# Altium footprint library Lib_PCB_IFOG_Interrogator.PcbLib: 31 footprints (part 2 of 2)
Each footprint in its own frame and in the unit in brackets; x right, y up, seen from the top. Pads: shape width x height; smd on the part's side, far side on the other; paste and mask are expansions set on the pad; w line width, h text height; cw(c..) or ccw(c..) is an arc to the next point about the centre after c.
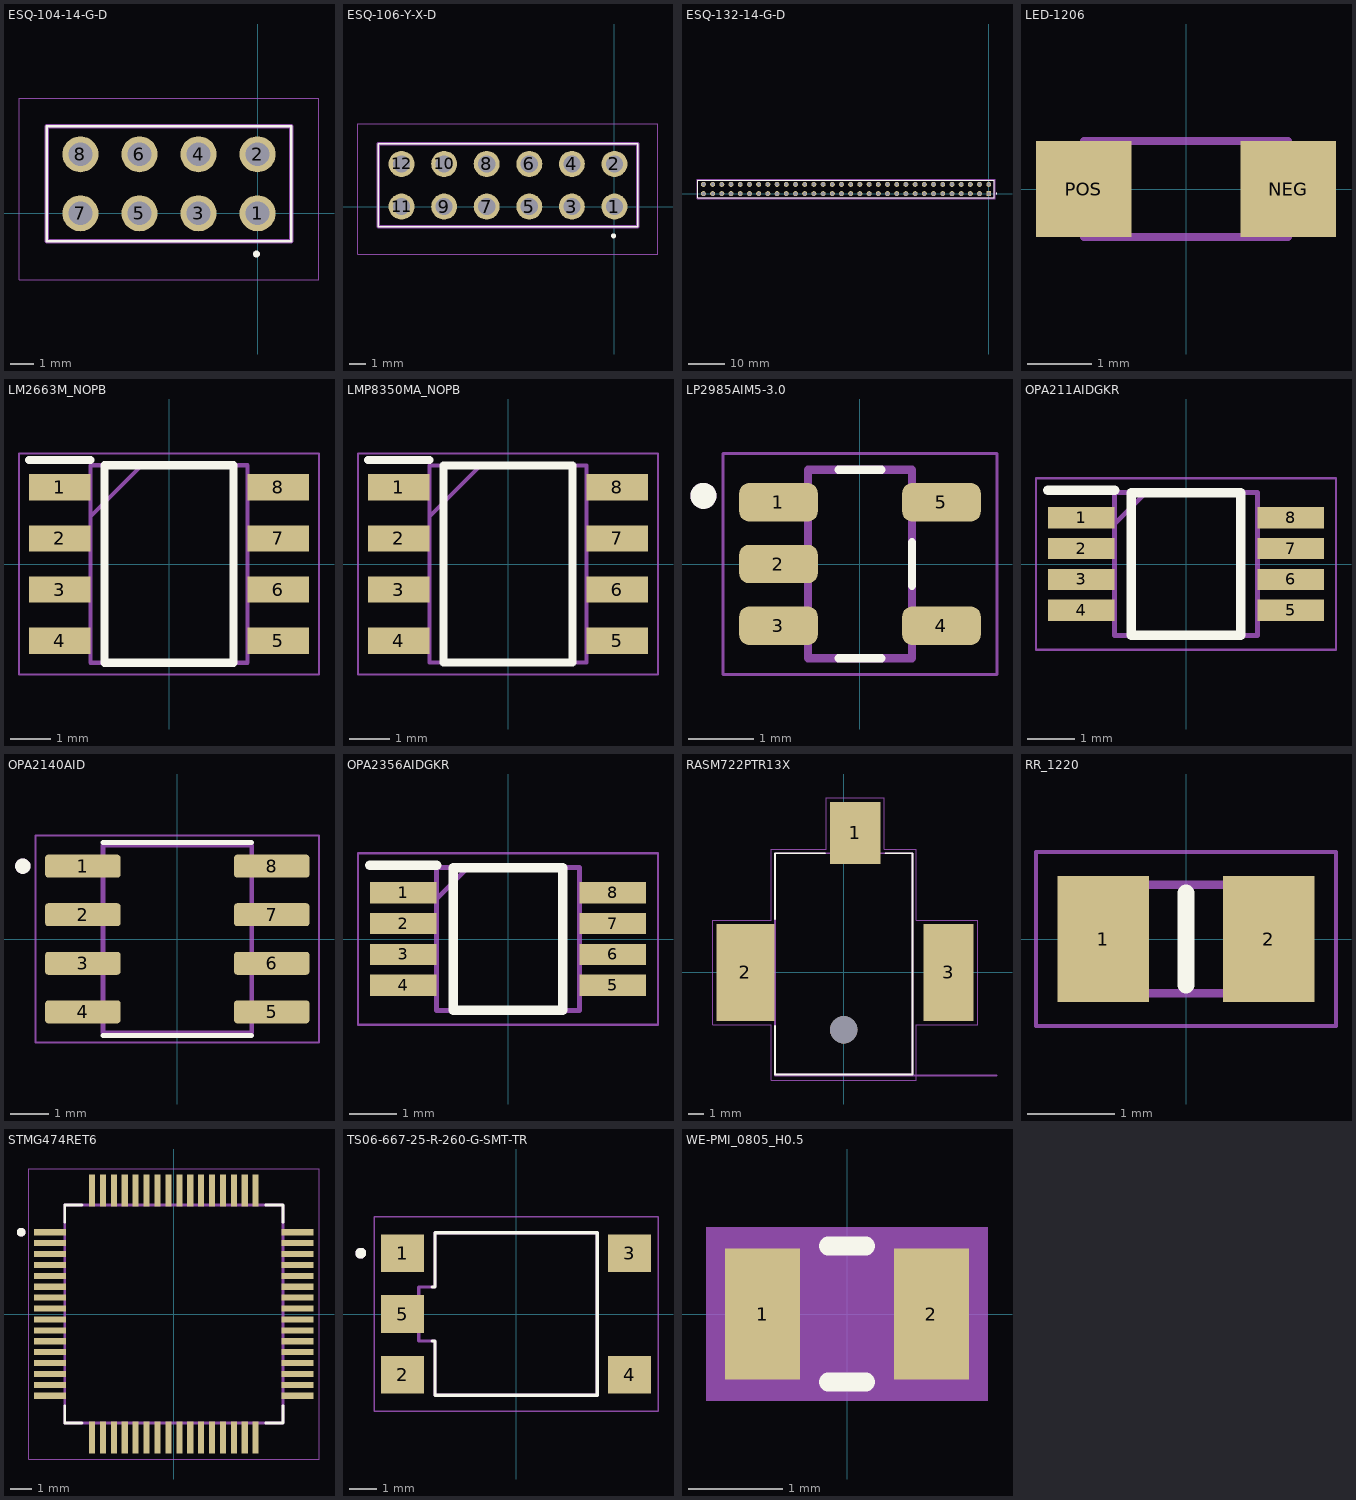
[diagram p1: the footprints below, top view; thin cyan lines are the x and y axes]

## ESQ-104-14-G-D [mm]
pads (8):
  round 1.55 hole 1.02: 1(0,0) 2(0,2.54) 3(-2.54,0) 4(-2.54,2.54) 5(-5.08,0) 6(-5.08,2.54) 7(-7.62,0) 8(-7.62,2.54)
Top Overlay:
  circle w0.2: c-0.05,-1.75 r0.05
  lines w0.1: -9.06,-1.205 1.44,-1.205 1.44,3.745 -9.06,3.745 -9.06,-1.205
Mechanical 15:
  lines w0.2: -9.06,-1.205 1.44,-1.205 1.44,3.745 -9.06,3.745 -9.06,-1.205
Mechanical 20:
  lines w0.05: -10.26,-2.85 2.64,-2.85 2.64,4.945 -10.26,4.945 -10.26,-2.85
3D body "ESQ-104-14-G-D.stp": height 11.05, standoff -7.37, extent -9.144,-1.27 1.524,3.81

## ESQ-106-Y-X-D [mm]
pads (12):
  round 1.55 hole 1.02: 1(0,0) 2(0,2.54) 3(-2.54,0) 4(-2.54,2.54) 5(-5.08,0) 6(-5.08,2.54) 7(-7.62,0) 8(-7.62,2.54) 9(-10.16,0) 10(-10.16,2.54) 11(-12.7,0) 12(-12.7,2.54)
Top Overlay:
  circle w0.2: c-0.05,-1.75 r0.05
  lines w0.1: -14.1,-1.205 -14.1,3.745 1.4,3.745 1.4,-1.205 -14.1,-1.205
Mechanical 15:
  lines w0.2: -14.1,-1.205 -14.1,3.745 1.4,3.745 1.4,-1.205 -14.1,-1.205
Mechanical 20:
  lines w0.05: -15.3,-2.85 -15.3,4.945 2.6,4.945 2.6,-2.85 -15.3,-2.85
3D body "ESQ-106-14-G-D.stp": height 13.59, standoff -4.57, extent -14.224,-1.143 1.524,3.937

## ESQ-132-14-G-D [mm]
pads (64):
  rect 1.37x1.37 hole 1.02: 01(0,0)
  round 1.37 hole 1.02: 02(0,2.54) 03(-2.54,0) 04(-2.54,2.54) 05(-5.08,0) 06(-5.08,2.54) 07(-7.62,0) 08(-7.62,2.54) 09(-10.16,0) 10(-10.16,2.54) 11(-12.7,0) 12(-12.7,2.54) 13(-15.24,0) 14(-15.24,2.54) 15(-17.78,0) 16(-17.78,2.54) 17(-20.32,0) 18(-20.32,2.54) 19(-22.86,0) 20(-22.86,2.54) 21(-25.4,0) 22(-25.4,2.54) 23(-27.94,0) 24(-27.94,2.54) 25(-30.48,0) 26(-30.48,2.54) 27(-33.02,0) 28(-33.02,2.54) 29(-35.56,0) 30(-35.56,2.54) 31(-38.1,0) 32(-38.1,2.54) 33(-40.64,0) 34(-40.64,2.54) 35(-43.18,0) 36(-43.18,2.54) 37(-45.72,0) 38(-45.72,2.54) 39(-48.26,0) 40(-48.26,2.54) 41(-50.8,0) 42(-50.8,2.54) 43(-53.34,0) 44(-53.34,2.54) 45(-55.88,0) 46(-55.88,2.54) 47(-58.42,0) 48(-58.42,2.54) 49(-60.96,0) 50(-60.96,2.54) 51(-63.5,0) 52(-63.5,2.54) 53(-66.04,0) 54(-66.04,2.54) 55(-68.58,0) 56(-68.58,2.54) 57(-71.12,0) 58(-71.12,2.54) 59(-73.66,0) 60(-73.66,2.54) 61(-76.2,0) 62(-76.2,2.54) 63(-78.74,0) 64(-78.74,2.54)
Top Overlay:
  circle w0.2: c2.175,0 r0.1
  lines w0.2: -80.265,-1.205 -80.265,3.745 1.525,3.745 1.525,-1.205 -80.265,-1.205
Mechanical 13:
  circle w0.2: c2.175,0 r0.1
  lines w0.1: -80.265,-1.205 -80.265,3.745 ; -80.265,-1.205 1.525,-1.205 ; -80.265,-1.205 -80.265,3.745 ; -80.265,3.745 1.525,3.745 ; -80.265,3.745 1.525,3.745 ; 1.525,-1.205 1.525,3.745 ; 1.525,-1.205 1.525,3.745
Mechanical 15:
  lines w0.05: -80.515,-1.455 -80.515,3.995 1.775,3.995 1.775,-1.455 -80.515,-1.455
3D body "ESQ-132-14-G-D.stp": height 10.41, standoff -12.83, extent -79.883,-1.397 1.905,3.683

## LED-1206 [mm]
pads (2):
  rect 1.5x1.5 smd: NEG(1.6,0) POS(-1.6,0)
Mechanical 13:
  lines w0.127: -1.6,-0.75 1.6,-0.75 1.6,0.75 -1.6,0.75 -1.6,-0.75
3D body "step_temp.STEP": height 0.75, standoff 0, extent -1.5,-0.508 1.5,0.792

## LM2663M_NOPB [mm]
pads (8):
  rect 1.528x0.65 smd: 1(-2.711,1.905) 2(-2.711,0.635) 3(-2.711,-0.635) 4(-2.711,-1.905) 5(2.711,-1.905) 6(2.711,-0.635) 7(2.711,0.635) 8(2.711,1.905)
Top Overlay:
  lines w0.2: -3.475,2.58 -1.948,2.58 ; -1.598,-2.452 -1.598,2.452 1.598,2.452 1.598,-2.452 -1.598,-2.452
Mechanical 15:
  lines w0.1: -1.948,1.182 -0.678,2.452 ; -1.948,-2.452 -1.948,2.452 1.948,2.452 1.948,-2.452 -1.948,-2.452
Mechanical 20:
  lines w0.05: -3.725,-2.75 -3.725,2.75 3.725,2.75 3.725,-2.75 -3.725,-2.75
3D body "LM2663M_NOPB.stp": height 1.63, standoff 0, extent -3.011,-2.451 3.011,2.451

## LMP8350MA_NOPB [mm]
pads (8):
  rect 1.525x0.65 smd: 1(-2.712,1.905) 2(-2.712,0.635) 3(-2.712,-0.635) 4(-2.712,-1.905) 5(2.712,-1.905) 6(2.712,-0.635) 7(2.712,0.635) 8(2.712,1.905)
Top Overlay:
  lines w0.2: -3.475,2.58 -1.95,2.58 ; -1.6,-2.45 1.6,-2.45 1.6,2.45 -1.6,2.45 -1.6,-2.45
Mechanical 15:
  lines w0.1: -1.95,1.18 -0.68,2.45 ; -1.95,-2.45 1.95,-2.45 1.95,2.45 -1.95,2.45 -1.95,-2.45
Mechanical 20:
  lines w0.05: -3.725,-2.75 3.725,-2.75 3.725,2.75 -3.725,2.75 -3.725,-2.75
3D body "LMP8350MA_NOPB.stp": height 1.63, standoff 0, extent -2.884,-2.451 3.138,2.451

## LP2985AIM5-3.0 [mm]
pads (5):
  rrect50% 1.21x0.59 smd: 1(-1.255,0.95) 2(-1.255,0) 3(-1.255,-0.95) 4(1.255,-0.95) 5(1.255,0.95)
Top Overlay:
  circle w0.2: c-2.41,1.05 r0.1
  lines w0.127: -0.33,-1.45 0.33,-1.45 ; -0.33,1.45 0.33,1.45 ; 0.8,-0.335 0.8,0.335
Mechanical 13:
  circle w0.2: c-2.41,1.05 r0.1
  lines w0.127: -0.8,-1.45 0.8,-1.45 0.8,1.45 -0.8,1.45 -0.8,-1.45
Mechanical 15:
  lines w0.05: -2.11,-1.7 -2.11,1.7 2.11,1.7 2.11,-1.7 -2.11,-1.7
3D body "step_temp.STEP": height 1.45, standoff 0, extent -1.4,-1.45 1.4,1.45

## OPA211AIDGKR [mm]
pads (8):
  rect 1.4x0.45 smd: 1(-2.2,0.975) 2(-2.2,0.325) 3(-2.2,-0.325) 4(-2.2,-0.975) 5(2.2,-0.975) 6(2.2,-0.325) 7(2.2,0.325) 8(2.2,0.975)
Top Overlay:
  lines w0.2: -2.9,1.55 -1.5,1.55 ; -1.15,-1.5 -1.15,1.5 1.15,1.5 1.15,-1.5 -1.15,-1.5
Mechanical 15:
  lines w0.1: -1.5,0.85 -0.85,1.5 ; -1.5,-1.5 -1.5,1.5 1.5,1.5 1.5,-1.5 -1.5,-1.5
Mechanical 20:
  lines w0.05: -3.15,-1.8 -3.15,1.8 3.15,1.8 3.15,-1.8 -3.15,-1.8
3D body "OPA211AIDGKR.stp": height 1.1, standoff 0, extent -2.451,-1.499 2.451,1.499

## OPA2140AID [mm]
height 1.75
pads (8):
  rrect25% 1.97x0.6 smd: 1(-2.47,1.905) 2(-2.47,0.635) 3(-2.47,-0.635) 4(-2.47,-1.905) 5(2.47,-1.905) 6(2.47,-0.635) 7(2.47,0.635) 8(2.47,1.905)
Top Overlay:
  circle w0.2: c-4.04,1.905 r0.1
  lines w0.127: -1.947,-2.525 1.947,-2.525 ; -1.947,2.525 1.947,2.525
Mechanical 13:
  circle w0.2: c-4.04,1.905 r0.1
  lines w0.127: -1.947,-2.452 -1.947,2.452 1.947,2.452 1.947,-2.452 -1.947,-2.452
Mechanical 15:
  lines w0.05: -3.705,-2.702 -3.705,2.702 3.705,2.702 3.705,-2.702 -3.705,-2.702
3D body "step_temp.STEP": height 1.75, standoff 0, extent -3,-2.45 3,2.45

## OPA2356AIDGKR [mm]
pads (8):
  rect 1.4x0.45 smd: 1(-2.2,0.975) 2(-2.2,0.325) 3(-2.2,-0.325) 4(-2.2,-0.975) 5(2.2,-0.975) 6(2.2,-0.325) 7(2.2,0.325) 8(2.2,0.975)
Top Overlay:
  lines w0.2: -2.9,1.55 -1.5,1.55 ; -1.15,-1.5 1.15,-1.5 1.15,1.5 -1.15,1.5 -1.15,-1.5
Mechanical 15:
  lines w0.1: -1.5,0.85 -0.85,1.5 ; -1.5,-1.5 1.5,-1.5 1.5,1.5 -1.5,1.5 -1.5,-1.5
Mechanical 20:
  lines w0.05: -3.15,-1.8 3.15,-1.8 3.15,1.8 -3.15,1.8 -3.15,-1.8
3D body "OPA2356AIDGKR.stp": height 1.1, standoff 0, extent -2.324,-1.499 2.578,1.499

## RASM722PTR13X [mm]
height 11
pads (4):
  rect 3.3x4.06 smd: 1(0.76,9.14)
  rect 3.81x6.35 smd: 2(-6.43,0)
  rect 3.3x6.35 smd: 3(6.86,0)
  round 1.78 hole 1.78 unplated mask+0.254: ""(0,-3.76)
Top Overlay:
  lines w0.127: -4.5,-3.495 -4.5,-6.7 4.5,-6.7 4.5,7.8 2.73,7.8 ; -4.5,3.495 -4.5,7.8 -1.21,7.8
Mechanical 13:
  lines w0.127: 10,-6.76 -4.5,-6.76 ; -4.5,-6.76 -4.5,-6.7 ; -4.5,-6.76 -4.5,-6.7 ; -4.5,-6.7 4.5,-6.7 4.5,7.8 -4.5,7.8 -4.5,-6.7
  text "PCB EDGE" at 4.9,-6.5 h0.81
Mechanical 15:
  lines w0.05: -8.585,-3.425 -8.585,3.425 -4.75,3.425 -4.75,8.05 -1.14,8.05 -1.14,11.42 2.66,11.42 2.66,8.05 4.75,8.05 4.75,3.425 8.76,3.425 8.76,-3.425 4.75,-3.425 4.75,-7.05 -4.75,-7.05 -4.75,-3.425 -8.585,-3.425
3D body "step_temp.STEP": height 11.02, standoff -1.42, extent -7.468,-6.604 7.772,10.414

## RR_1220 [mm]
pads (2):
  rect 1.05x1.45 smd: 1(-0.95,0) 2(0.95,0)
Top Overlay:
  lines w0.2: 0,-0.525 0,0.525
Mechanical 15:
  lines w0.1: -1,-0.625 1,-0.625 1,0.625 -1,0.625 -1,-0.625
Mechanical 20:
  lines w0.05: -1.725,-1 1.725,-1 1.725,1 -1.725,1 -1.725,-1
3D body "RR1220P-5232-D-M.stp": height 0.5, standoff 0, extent -1,-0.625 1,0.625

## STMG474RET6 [mm]
height 1.6
pads (64):
  rect 1.47x0.28 smd: 1(-5.67,3.75) 2(-5.67,3.25) 3(-5.67,2.75) 4(-5.67,2.25) 5(-5.67,1.75) 6(-5.67,1.25) 7(-5.67,0.75) 8(-5.67,0.25) 9(-5.67,-0.25) 10(-5.67,-0.75) 11(-5.67,-1.25) 12(-5.67,-1.75) 13(-5.67,-2.25) 14(-5.67,-2.75) 15(-5.67,-3.25) 16(-5.67,-3.75) 33(5.67,-3.75) 34(5.67,-3.25) 35(5.67,-2.75) 36(5.67,-2.25) 37(5.67,-1.75) 38(5.67,-1.25) 39(5.67,-0.75) 40(5.67,-0.25) 41(5.67,0.25) 42(5.67,0.75) 43(5.67,1.25) 44(5.67,1.75) 45(5.67,2.25) 46(5.67,2.75) 47(5.67,3.25) 48(5.67,3.75)
  rect 0.28x1.47 smd: 17(-3.75,-5.67) 18(-3.25,-5.67) 19(-2.75,-5.67) 20(-2.25,-5.67) 21(-1.75,-5.67) 22(-1.25,-5.67) 23(-0.75,-5.67) 24(-0.25,-5.67) 25(0.25,-5.67) 26(0.75,-5.67) 27(1.25,-5.67) 28(1.75,-5.67) 29(2.25,-5.67) 30(2.75,-5.67) 31(3.25,-5.67) 32(3.75,-5.67) 49(3.75,5.67) 50(3.25,5.67) 51(2.75,5.67) 52(2.25,5.67) 53(1.75,5.67) 54(1.25,5.67) 55(0.75,5.67) 56(0.25,5.67) 57(-0.25,5.67) 58(-0.75,5.67) 59(-1.25,5.67) 60(-1.75,5.67) 61(-2.25,5.67) 62(-2.75,5.67) 63(-3.25,5.67) 64(-3.75,5.67)
Top Overlay:
  circle w0.2: c-7,3.75 r0.1
  lines w0.127: -5,-4.21 -5,-5 -4.21,-5 ; -5,4.21 -5,5 -4.21,5 ; 4.21,-5 5,-5 5,-4.21 ; 4.21,5 5,5 5,4.21
Mechanical 13:
  circle w0.2: c-7,3.75 r0.1
  lines w0.127: -5,-5 -5,5 5,5 5,-5 -5,-5
Mechanical 15:
  lines w0.05: -6.655,-6.655 6.655,-6.655 6.655,6.655 -6.655,6.655 -6.655,-6.655
3D body "step_temp.STEP": height 1.6, standoff 0, extent -6,-6 6,6

## TS06-667-25-R-260-G-SMT-TR [mm]
height 2.6
pads (5):
  rect 1.6x1.4 smd: 1(-4.2,2.25) 2(-4.2,-2.25) 3(4.2,2.25) 4(4.2,-2.25) 5(-4.2,0)
Top Overlay:
  circle w0.2: c-5.75,2.25 r0.1
  lines w0.127: -3.1,-1 -3,-1 -3,-3 3,-3 3,3 -3,3 -3,1 -3.1,1
Mechanical 13:
  circle w0.2: c-5.75,2.25 r0.1
  lines w0.127: -3.6,-1 -3.6,1 -3,1 -3,3 3,3 3,-3 -3,-3 -3,-1 -3.6,-1
Mechanical 15:
  lines w0.05: -5.25,-3.6 -5.25,3.6 5.25,3.6 5.25,-3.6 -5.25,-3.6
3D body "step_temp.STEP": height 2.5, standoff -0.1, extent -3.35,-4.2 3.35,4.2

## WE-PMI_0805_H0.5 [mm]
pads (2):
  rect 0.8x1.4 smd: 1(-0.9,0) 2(0.9,0)
Top Overlay:
  lines w0.2: -0.2,-0.725 0.2,-0.725 ; -0.2,0.725 0.2,0.725
Mechanical 13:
  lines w0.1: -1,-0.625 -1,0.625 1,0.625 1,-0.625 -1,-0.625
Mechanical 15:
  region: 1.5,-0.925 -1.5,-0.925 -1.5,0.925 1.5,0.925
3D body "Download_STP_WE-PMI-0805LP+%28rev1%29.stp": height 0.25, standoff -0.25, extent -1,-0.625 1,0.625